# EAGLE library part XBEE (library robo_ag)
Funk-Adapter Reichelt:ZIGBEE XBEE D 3,3V
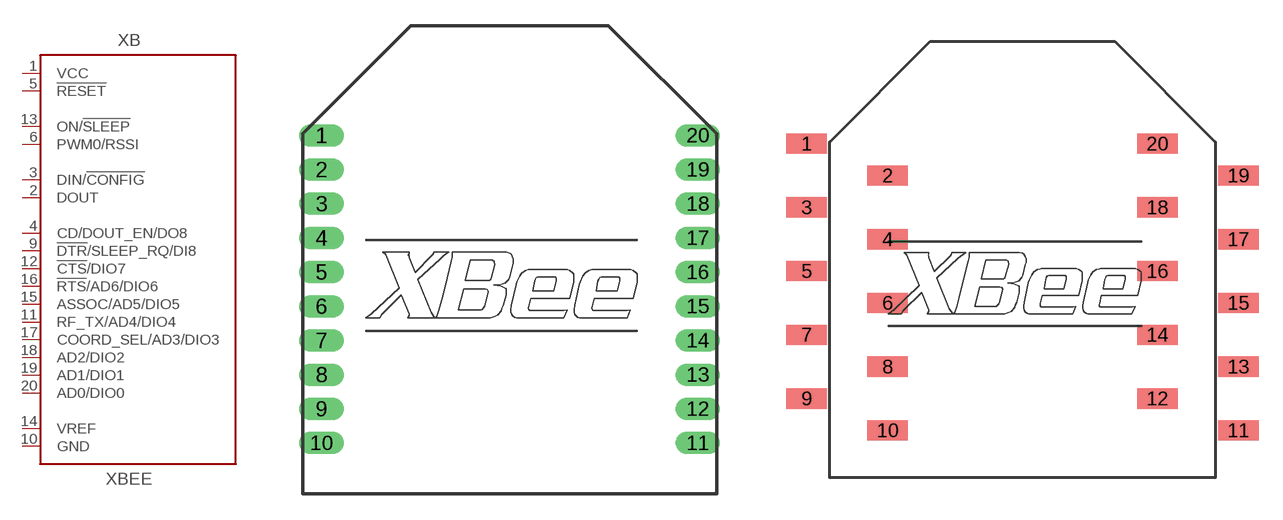
[diagram p2: symbol with the pads of FUNK_XBEE; footprints FUNK_XBEE, FUNK_XBEE_SMD]

Designator prefix XB

## XBEE  [FUNK_XBEE]
1  VCC  pwr
2  DOUT  out
3  DIN/!CONFIG  in
4  CD/DOUT_EN/DO8  out
5  !RESET  in
6  PWM0/RSSI  out
9  !DTR!/SLEEP_RQ/DI8
10  GND  pwr
11  RF_TX/AD4/DIO4
12  !CTS!/DIO7
13  ON/!SLEEP  out
14  VREF  in
15  ASSOC/AD5/DIO5
16  !RTS!/AD6/DIO6
17  COORD_SEL/AD3/DIO3
18  AD2/DIO2
19  AD1/DIO1
20  AD0/DIO0

## XBEE-SMD  [FUNK_XBEE_SMD]
Pads as for FUNK_XBEE

## Footprint FUNK_XBEE (pad centres in mm)
XBee [reichelt.de] "ZIGBEE XBEE D": Drahtantenne "ZIGBEE XBEE AC": Chipantenne
drill 0.8 pad 1.27 long: 1 -11,9; 2 -11,7; 3 -11,5; 4 -11,3; 5 -11,1; 6 -11,-1; 7 -11,-3; 8 -11,-5; 9 -11,-7; 10 -11,-9; 11 11,-9; 12 11,-7; 13 11,-5; 14 11,-3; 15 11,-1; 16 11,1; 17 11,3; 18 11,5; 19 11,7; 20 11,9

## Footprint FUNK_XBEE_SMD (pad centres in mm)
XBee [reichelt.de] "ZIGBEE XBEE D": Drahtantenne "ZIGBEE XBEE AC": Chipantenne
smd 2.54 x 1.27: 1 -13.54,9; 2 -8.46,7; 3 -13.54,5; 4 -8.46,3; 5 -13.54,1; 6 -8.46,-1; 7 -13.54,-3; 8 -8.46,-5; 9 -13.54,-7; 10 -8.46,-9; 11 13.54,-9; 12 8.46,-7; 13 13.54,-5; 14 8.46,-3; 15 13.54,-1; 16 8.46,1; 17 13.54,3; 18 8.46,5; 19 13.54,7; 20 8.46,9